# EAGLE library part IC-PACKAGE_DIL20 (library TLC59213)
Dual In Line / Socket
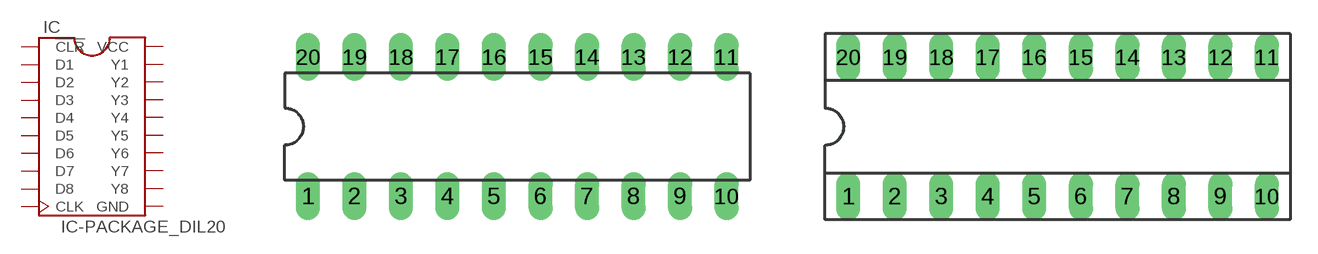
[diagram p0: symbol with the pads of IC-PACKAGE_DIL20; footprints IC-PACKAGE_DIL20, IC-PACKAGE_SOCKET-20]

Designator prefix IC

## IC-PACKAGE_DIL20  [IC-PACKAGE_DIL20]
1  !CLR  in
2  D1  in
3  D2  in
4  D3  in
5  D4  in
6  D5  in
7  D6  in
8  D7  in
9  D8  in
10  CLK  in
11  GND  pwr
12  Y8  out
13  Y7  out
14  Y6  out
15  Y5  out
16  Y4  out
17  Y3  out
18  Y2  out
19  Y1  out
20  VCC  pwr

## IC-PACKAGE_DIL20S  [IC-PACKAGE_SOCKET-20]
Pads as for IC-PACKAGE_DIL20

## Footprint IC-PACKAGE_DIL20 (pad centres in mm)
Dual In Line Package
drill 0.813 long: 1 -11.43,-3.81; 2 -8.89,-3.81; 3 -6.35,-3.81; 4 -3.81,-3.81; 5 -1.27,-3.81; 6 1.27,-3.81; 7 3.81,-3.81; 8 6.35,-3.81; 9 8.89,-3.81; 10 11.43,-3.81; 11 11.43,3.81; 12 8.89,3.81; 13 6.35,3.81; 14 3.81,3.81; 15 1.27,3.81; 16 -1.27,3.81; 17 -3.81,3.81; 18 -6.35,3.81; 19 -8.89,3.81; 20 -11.43,3.81

## Footprint IC-PACKAGE_SOCKET-20 (pad centres in mm)
Dual In Line Socket
drill 0.813 long: 1 -11.43,-3.81; 2 -8.89,-3.81; 3 -6.35,-3.81; 4 -3.81,-3.81; 5 -1.27,-3.81; 6 1.27,-3.81; 7 3.81,-3.81; 8 6.35,-3.81; 9 8.89,-3.81; 10 11.43,-3.81; 11 11.43,3.81; 12 8.89,3.81; 13 6.35,3.81; 14 3.81,3.81; 15 1.27,3.81; 16 -1.27,3.81; 17 -3.81,3.81; 18 -6.35,3.81; 19 -8.89,3.81; 20 -11.43,3.81